# EAGLE library part TPS63001 (library parts)
High efficiency buck boost SPS
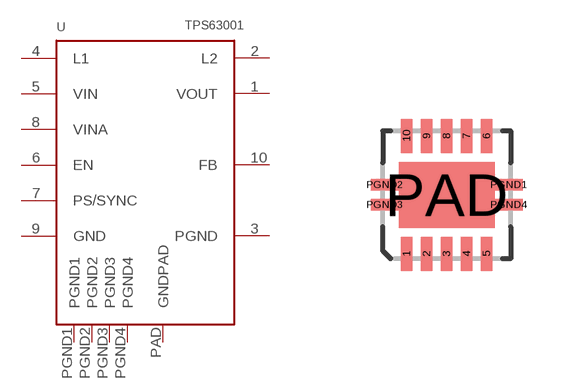
[diagram p6: symbol with the pads of QFN10; footprint QFN10]

Designator prefix U

## TPS63001  [QFN10]
1  VOUT
2  L2
3  PGND
4  L1
5  VIN
6  EN
7  PS/SYNC
8  VINA
9  GND
10  FB
PAD  GNDPAD
PGND1  PGND1
PGND2  PGND2
PGND3  PGND3
PGND4  PGND4

## Footprint QFN10 (pad centres in mm)
smd 0.28 x 0.85: 1 -1,-1.475; 2 -0.5,-1.475; 3 0,-1.475; 4 0.5,-1.475; 5 1,-1.475; 6 1,1.475; 7 0.5,1.475; 8 0,1.475; 9 -0.5,1.475; 10 -1,1.475
smd 2.4 x 1.65: PAD 0,0
smd 0.7 x 0.28: PGND1 1.55,0.25; PGND2 -1.55,0.25; PGND3 -1.55,-0.25; PGND4 1.55,-0.25